# EAGLE library part AVR_SPI_PRG_6 (library mike-temp)
AVR ISP 6 Pin This is the reduced ISP connector for AVR programming. Common on Arduino. This footprint will take up less PCB space and can be used with a 10-pin to 6-pin adapter such as SKU: BOB-08508
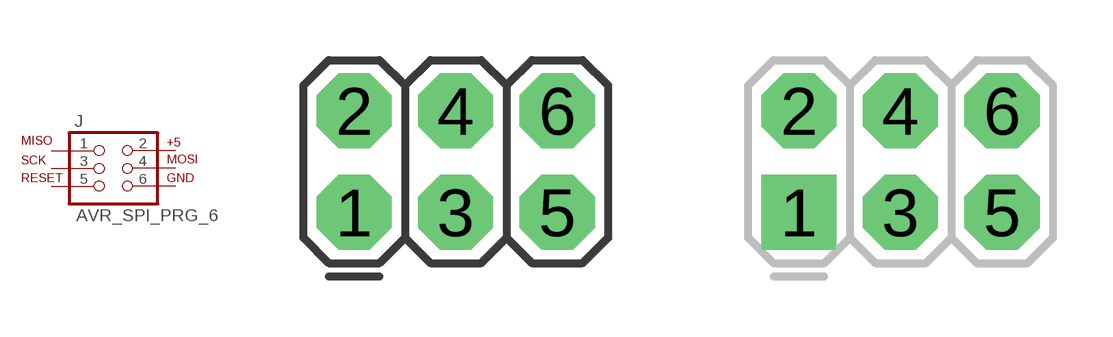
[diagram p29: symbol with the pads of 2X3; footprints 2X3, 2X3-NS]

Designator prefix J

## AVR_SPI_PRG_6PTH  [2X3]
1  1  pas
2  2  pas
3  3  pas
4  4  pas
5  5  pas
6  6  pas

## AVR_SPI_PRG_6NS  [2X3-NS]
Pads as for 2X3

## AVR_SPI_PRG_6OFFSET_PADS  [2X3_OFFSET]
Pads as for 2X3

## AVR_SPI_PRG_62X3_LOCK  [2X3_LOCK]
Pads as for 2X3

## AVR_SPI_PRG_6_SMT  [2X3SMT]
Pads as for 2X3

## Footprint 2X3 (pad centres in mm)
drill 1.016 pad 1.88 octagon: 1 0,0; 2 0,2.54; 3 2.54,0; 4 2.54,2.54; 5 5.08,0; 6 5.08,2.54

## Footprint 2X3-NS (pad centres in mm)
drill 1.016 pad 1.88 square: 1 -2.54,-1.27
drill 1.016 pad 1.88 octagon: 2 -2.54,1.27; 3 0,-1.27; 4 0,1.27; 5 2.54,-1.27; 6 2.54,1.27

## Footprint 2X3_OFFSET (pad centres in mm)
drill 1.118 pad 1.88 offset: 1 -2.54,-1.27; 2 -2.54,1.27; 3 0,-1.27; 4 0,1.27; 5 2.54,-1.27; 6 2.54,1.27

## Footprint 2X3_LOCK (pad centres in mm)
drill 1.016 pad 1.88 octagon: 1 0,0; 2 0,2.54; 3 2.54,-0.254; 4 2.54,2.286; 5 5.08,0; 6 5.08,2.54

## Footprint 2X3SMT (pad centres in mm)
smd 1 x 3.17: 1 2.54,2.665; 2 2.54,-2.665; 3 0,2.665; 4 0,-2.665; 5 -2.54,2.665; 6 -2.54,-2.665